# Altium integrated library Capacitors - Aluminum - Electrolytic SMT.IntLib: 1988 symbols (part 29 of 50)
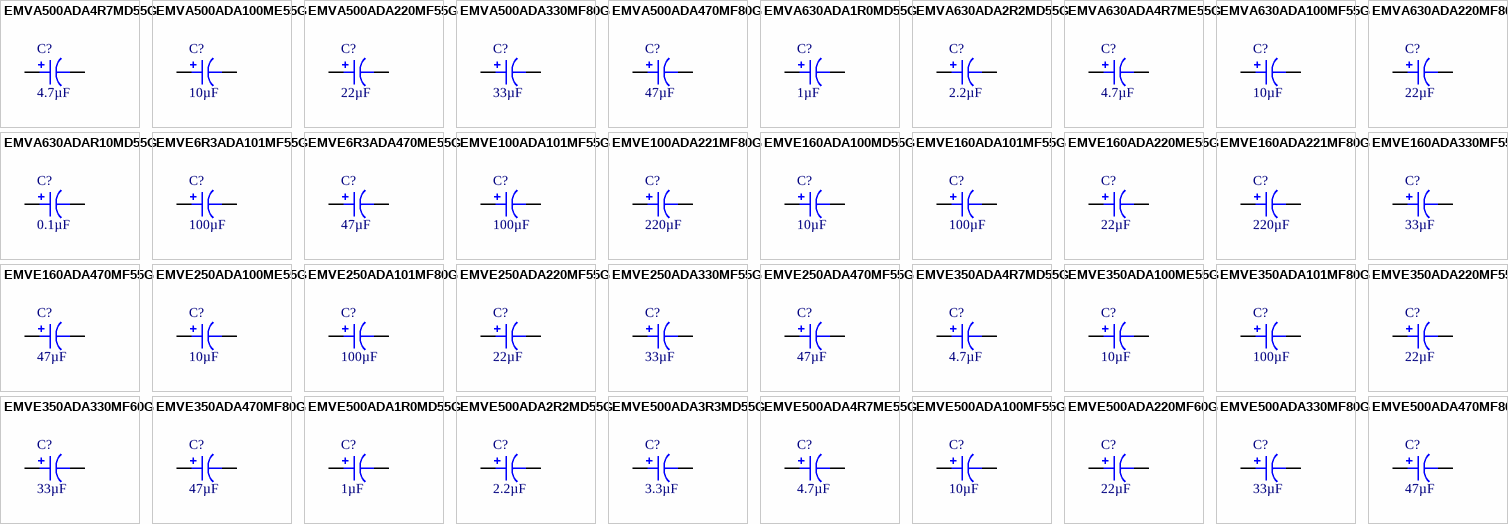
[diagram p76: symbols EMVA500ADA4R7MD55G to EMVE500ADA470MF80G]

## EMVE350ADA220MF55G
designator C?, comment 22µF
CAP ALUM 22UF 20% 35V SMD; Part Number: EMVE350ADA220MF55G; Manufacturer: United Chemi-Con; Lifetime @ Temp.: 1000 Hrs @ 105°C; Polarization: Polar; Ripple Current @ Low Frequency: 44mA @ 120Hz; Surface Mount Land Size: 0.260" L x 0.260" W (6.60mm x 6.60mm); Applications: General Purpose; Capacitance: 22µF; ComponentLink1Description: Datasheet; ComponentLink1URL: //media.digikey.com/pdf/Data%20Sheets/United%20Chemi-Con%20PDFs/MVE%20Series.pdf; ComponentLink2Description: DigiKey Link; ComponentLink2URL: http://digikey.com/product-detail/en/united-chemi-con/EMVE350ADA220MF55G/565-2231-1-ND/757392; Device Package: Radial, Can - SMD; Height - Seated (Max): 0.205" (5.20mm); LastUpdated: 9/2/2020 1:18:32 AM; Lifecycle Status: Active; Minimum Order: 1; Mounting Type: Surface Mount; Operating Temperature: -40°C ~ 105°C; Package / Case: Radial, Can - SMD; Packaging: TapeAndReel; PartId: 8628; Part Status: Active; Price: 0.13; Series: Alchip™- MVE; Size / Dimension: 0.248" Dia (6.30mm); Supplier 1: DigiKey; Supplier Part Number 1: 565-2231-1-ND; Tolerance: ±20%; Value: 22µF; Voltage - Rated: 35V
footprint CAP ALSMD 6.6MM H5.4MM
pins: 1, 2

## EMVE350ADA330MF60G
designator C?, comment 33µF
CAP ALUM 33UF 20% 35V SMD; Part Number: EMVE350ADA330MF60G; Manufacturer: United Chemi-Con; Lifetime @ Temp.: 1000 Hrs @ 105°C; Polarization: Polar; Ripple Current @ Low Frequency: 54mA @ 120Hz; Surface Mount Land Size: 0.260" L x 0.260" W (6.60mm x 6.60mm); Applications: General Purpose; Capacitance: 33µF; ComponentLink1Description: Datasheet; ComponentLink1URL: //media.digikey.com/pdf/Data%20Sheets/United%20Chemi-Con%20PDFs/MVE%20Series.pdf; ComponentLink2Description: DigiKey Link; ComponentLink2URL: http://digikey.com/product-detail/en/united-chemi-con/EMVE350ADA330MF60G/565-2232-1-ND/757393; Device Package: Radial, Can - SMD; Height - Seated (Max): 0.224" (5.70mm); LastUpdated: 9/2/2020 1:18:40 AM; Lifecycle Status: Active; Minimum Order: 1; Mounting Type: Surface Mount; Operating Temperature: -40°C ~ 105°C; Package / Case: Radial, Can - SMD; Packaging: TapeAndReel; PartId: 9060; Part Status: Active; Price: 0.09; Series: Alchip™- MVE; Size / Dimension: 0.248" Dia (6.30mm); Supplier 1: DigiKey; Supplier Part Number 1: 565-2232-1-ND; Tolerance: ±20%; Value: 33µF; Voltage - Rated: 35V
footprint CAP ALSMD 6.6MM H6.1MM
pins: 1, 2

## EMVE350ADA470MF80G
designator C?, comment 47µF
CAP ALUM 47UF 20% 35V SMD; Part Number: EMVE350ADA470MF80G; Manufacturer: United Chemi-Con; Lifetime @ Temp.: 1000 Hrs @ 105°C; Polarization: Polar; Ripple Current @ Low Frequency: 80mA @ 120Hz; Surface Mount Land Size: 0.260" L x 0.260" W (6.60mm x 6.60mm); Applications: General Purpose; Capacitance: 47µF; ComponentLink1Description: Datasheet; ComponentLink1URL: //media.digikey.com/pdf/Data%20Sheets/United%20Chemi-Con%20PDFs/MVE%20Series.pdf; ComponentLink2Description: DigiKey Link; ComponentLink2URL: http://digikey.com/product-detail/en/united-chemi-con/EMVE350ADA470MF80G/565-2233-1-ND/757394; Device Package: Radial, Can - SMD; Height - Seated (Max): 0.303" (7.70mm); LastUpdated: 9/2/2020 1:25:34 AM; Lifecycle Status: Active; Minimum Order: 1; Mounting Type: Surface Mount; Operating Temperature: -40°C ~ 105°C; Package / Case: Radial, Can - SMD; Packaging: TapeAndReel; PartId: 8291; Part Status: Active; Price: 0.14; Series: Alchip™- MVE; Size / Dimension: 0.248" Dia (6.30mm); Supplier 1: DigiKey; Supplier Part Number 1: 565-2233-1-ND; Tolerance: ±20%; Value: 47µF; Voltage - Rated: 35V
footprint CAP ALSMD 6.6MM H7.7MM
pins: 1, 2

## EMVE500ADA1R0MD55G
designator C?, comment 1µF
CAP ALUM 1UF 20% 50V SMD; Part Number: EMVE500ADA1R0MD55G; Manufacturer: United Chemi-Con; Lifetime @ Temp.: 1000 Hrs @ 105°C; Polarization: Polar; Ripple Current @ Low Frequency: 8mA @ 120Hz; Surface Mount Land Size: 0.169" L x 0.169" W (4.30mm x 4.30mm); Applications: General Purpose; Capacitance: 1µF; ComponentLink1Description: Datasheet; ComponentLink1URL: //media.digikey.com/pdf/Data%20Sheets/United%20Chemi-Con%20PDFs/MVE%20Series.pdf; ComponentLink2Description: DigiKey Link; ComponentLink2URL: http://digikey.com/product-detail/en/united-chemi-con/EMVE500ADA1R0MD55G/565-2244-1-ND/757405; Device Package: Radial, Can - SMD; Height - Seated (Max): 0.205" (5.20mm); LastUpdated: 9/2/2020 1:23:44 AM; Lifecycle Status: Active; Minimum Order: 1; Mounting Type: Surface Mount; Operating Temperature: -40°C ~ 105°C; Package / Case: Radial, Can - SMD; Packaging: TapeAndReel; PartId: 7107; Part Status: Active; Price: 0.07; Series: Alchip™- MVE; Size / Dimension: 0.157" Dia (4.00mm); Supplier 1: DigiKey; Supplier Part Number 1: 565-2244-1-ND; Tolerance: ±20%; Value: 1µF; Voltage - Rated: 50V
footprint CAP ALSMD POLY 4.3MM H5.5MM
pins: 1, 2

## EMVE500ADA2R2MD55G
designator C?, comment 2.2µF
CAP ALUM 2.2UF 20% 50V SMD; Part Number: EMVE500ADA2R2MD55G; Manufacturer: United Chemi-Con; Lifetime @ Temp.: 1000 Hrs @ 105°C; Polarization: Polar; Ripple Current @ Low Frequency: 12mA @ 120Hz; Surface Mount Land Size: 0.169" L x 0.169" W (4.30mm x 4.30mm); Applications: General Purpose; Capacitance: 2.2µF; ComponentLink1Description: Datasheet; ComponentLink1URL: //media.digikey.com/pdf/Data%20Sheets/United%20Chemi-Con%20PDFs/MVE%20Series.pdf; ComponentLink2Description: DigiKey Link; ComponentLink2URL: http://digikey.com/product-detail/en/united-chemi-con/EMVE500ADA2R2MD55G/565-2245-1-ND/757406; Device Package: Radial, Can - SMD; Height - Seated (Max): 0.205" (5.20mm); LastUpdated: 9/2/2020 1:23:43 AM; Lifecycle Status: Active; Minimum Order: 1; Mounting Type: Surface Mount; Operating Temperature: -40°C ~ 105°C; Package / Case: Radial, Can - SMD; Packaging: TapeAndReel; PartId: 7170; Part Status: Active; Price: 0.07; Series: Alchip™- MVE; Size / Dimension: 0.157" Dia (4.00mm); Supplier 1: DigiKey; Supplier Part Number 1: 565-2245-1-ND; Tolerance: ±20%; Value: 2.2µF; Voltage - Rated: 50V
footprint CAP ALSMD POLY 4.3MM H5.5MM
pins: 1, 2

## EMVE500ADA3R3MD55G
designator C?, comment 3.3µF
CAP ALUM 3.3UF 20% 50V SMD; Part Number: EMVE500ADA3R3MD55G; Manufacturer: United Chemi-Con; Lifetime @ Temp.: 1000 Hrs @ 105°C; Polarization: Polar; Ripple Current @ Low Frequency: 15mA @ 120Hz; Surface Mount Land Size: 0.169" L x 0.169" W (4.30mm x 4.30mm); Applications: General Purpose; Capacitance: 3.3µF; ComponentLink1Description: Datasheet; ComponentLink1URL: //media.digikey.com/pdf/Data%20Sheets/United%20Chemi-Con%20PDFs/MVE%20Series.pdf; ComponentLink2Description: DigiKey Link; ComponentLink2URL: http://digikey.com/product-detail/en/united-chemi-con/EMVE500ADA3R3MD55G/565-2246-1-ND/757407; Device Package: Radial, Can - SMD; Height - Seated (Max): 0.205" (5.20mm); LastUpdated: 9/2/2020 1:23:46 AM; Lifecycle Status: Active; Minimum Order: 1; Mounting Type: Surface Mount; Operating Temperature: -40°C ~ 105°C; Package / Case: Radial, Can - SMD; Packaging: TapeAndReel; PartId: 7043; Part Status: Active; Price: 0.07; Series: Alchip™- MVE; Size / Dimension: 0.157" Dia (4.00mm); Supplier 1: DigiKey; Supplier Part Number 1: 565-2246-1-ND; Tolerance: ±20%; Value: 3.3µF; Voltage - Rated: 50V
footprint CAP ALSMD POLY 4.3MM H5.5MM
pins: 1, 2

## EMVE500ADA4R7ME55G
designator C?, comment 4.7µF
CAP ALUM 4.7UF 20% 50V SMD; Part Number: EMVE500ADA4R7ME55G; Manufacturer: United Chemi-Con; Lifetime @ Temp.: 1000 Hrs @ 105°C; Polarization: Polar; Ripple Current @ Low Frequency: 20mA @ 120Hz; Surface Mount Land Size: 0.209" L x 0.209" W (5.30mm x 5.30mm); Applications: General Purpose; Capacitance: 4.7µF; ComponentLink1Description: Datasheet; ComponentLink1URL: //media.digikey.com/pdf/Data%20Sheets/United%20Chemi-Con%20PDFs/MVE%20Series.pdf; ComponentLink2Description: DigiKey Link; ComponentLink2URL: http://digikey.com/product-detail/en/united-chemi-con/EMVE500ADA4R7ME55G/565-2247-1-ND/757408; Device Package: Radial, Can - SMD; Height - Seated (Max): 0.205" (5.20mm); LastUpdated: 9/2/2020 1:18:30 AM; Lifecycle Status: Active; Minimum Order: 1; Mounting Type: Surface Mount; Operating Temperature: -40°C ~ 105°C; Package / Case: Radial, Can - SMD; Packaging: TapeAndReel; PartId: 8617; Part Status: Active; Price: 0.08; Series: Alchip™- MVE; Size / Dimension: 0.197" Dia (5.00mm); Supplier 1: DigiKey; Supplier Part Number 1: 565-2247-1-ND; Tolerance: ±20%; Value: 4.7µF; Voltage - Rated: 50V
footprint CAP ALSMD 5.3MM H5.4MM
pins: 1, 2

## EMVE500ADA100MF55G
designator C?, comment 10µF
CAP ALUM 10UF 20% 50V SMD; Part Number: EMVE500ADA100MF55G; Manufacturer: United Chemi-Con; Lifetime @ Temp.: 1000 Hrs @ 105°C; Polarization: Polar; Ripple Current @ Low Frequency: 32mA @ 120Hz; Surface Mount Land Size: 0.260" L x 0.260" W (6.60mm x 6.60mm); Applications: General Purpose; Capacitance: 10µF; ComponentLink1Description: Datasheet; ComponentLink1URL: //media.digikey.com/pdf/Data%20Sheets/United%20Chemi-Con%20PDFs/MVE%20Series.pdf; ComponentLink2Description: DigiKey Link; ComponentLink2URL: http://digikey.com/product-detail/en/united-chemi-con/EMVE500ADA100MF55G/565-2248-1-ND/757409; Device Package: Radial, Can - SMD; Height - Seated (Max): 0.205" (5.20mm); LastUpdated: 9/2/2020 1:18:32 AM; Lifecycle Status: Active; Minimum Order: 1; Mounting Type: Surface Mount; Operating Temperature: -40°C ~ 105°C; Package / Case: Radial, Can - SMD; Packaging: TapeAndReel; PartId: 8695; Part Status: Active; Price: 0.08; Series: Alchip™- MVE; Size / Dimension: 0.248" Dia (6.30mm); Supplier 1: DigiKey; Supplier Part Number 1: 565-2248-1-ND; Tolerance: ±20%; Value: 10µF; Voltage - Rated: 50V
footprint CAP ALSMD 6.6MM H5.4MM
pins: 1, 2

## EMVE500ADA220MF60G
designator C?, comment 22µF
CAP ALUM 22UF 20% 50V SMD; Part Number: EMVE500ADA220MF60G; Manufacturer: United Chemi-Con; Lifetime @ Temp.: 1000 Hrs @ 105°C; Polarization: Polar; Ripple Current @ Low Frequency: 47mA @ 120Hz; Surface Mount Land Size: 0.260" L x 0.260" W (6.60mm x 6.60mm); Applications: General Purpose; Capacitance: 22µF; ComponentLink1Description: Datasheet; ComponentLink1URL: //media.digikey.com/pdf/Data%20Sheets/United%20Chemi-Con%20PDFs/MVE%20Series.pdf; ComponentLink2Description: DigiKey Link; ComponentLink2URL: http://digikey.com/product-detail/en/united-chemi-con/EMVE500ADA220MF60G/565-2249-1-ND/757410; Device Package: Radial, Can - SMD; Height - Seated (Max): 0.224" (5.70mm); LastUpdated: 9/2/2020 1:18:40 AM; Lifecycle Status: Active; Minimum Order: 1; Mounting Type: Surface Mount; Operating Temperature: -40°C ~ 105°C; Package / Case: Radial, Can - SMD; Packaging: TapeAndReel; PartId: 9067; Part Status: Active; Price: 0.09; Series: Alchip™- MVE; Size / Dimension: 0.248" Dia (6.30mm); Supplier 1: DigiKey; Supplier Part Number 1: 565-2249-1-ND; Tolerance: ±20%; Value: 22µF; Voltage - Rated: 50V
footprint CAP ALSMD 6.6MM H6.1MM
pins: 1, 2

## EMVE500ADA330MF80G
designator C?, comment 33µF
CAP ALUM 33UF 20% 50V SMD; Part Number: EMVE500ADA330MF80G; Manufacturer: United Chemi-Con; Lifetime @ Temp.: 1000 Hrs @ 105°C; Polarization: Polar; Ripple Current @ Low Frequency: 65mA @ 120Hz; Surface Mount Land Size: 0.260" L x 0.260" W (6.60mm x 6.60mm); Applications: General Purpose; Capacitance: 33µF; ComponentLink1Description: Datasheet; ComponentLink1URL: //media.digikey.com/pdf/Data%20Sheets/United%20Chemi-Con%20PDFs/MVE%20Series.pdf; ComponentLink2Description: DigiKey Link; ComponentLink2URL: http://digikey.com/product-detail/en/united-chemi-con/EMVE500ADA330MF80G/565-2250-1-ND/757411; Device Package: Radial, Can - SMD; Height - Seated (Max): 0.303" (7.70mm); LastUpdated: 9/2/2020 1:25:35 AM; Lifecycle Status: Active; Minimum Order: 1; Mounting Type: Surface Mount; Operating Temperature: -40°C ~ 105°C; Package / Case: Radial, Can - SMD; Packaging: TapeAndReel; PartId: 8241; Part Status: Active; Price: 0.14; Series: Alchip™- MVE; Size / Dimension: 0.248" Dia (6.30mm); Supplier 1: DigiKey; Supplier Part Number 1: 565-2250-1-ND; Tolerance: ±20%; Value: 33µF; Voltage - Rated: 50V
footprint CAP ALSMD 6.6MM H7.7MM
pins: 1, 2

## EMVE500ADA470MF80G
designator C?, comment 47µF
CAP ALUM 47UF 20% 50V SMD; Part Number: EMVE500ADA470MF80G; Manufacturer: United Chemi-Con; Lifetime @ Temp.: 1000 Hrs @ 105°C; Polarization: Polar; Ripple Current @ Low Frequency: 80mA @ 120Hz; Surface Mount Land Size: 0.260" L x 0.260" W (6.60mm x 6.60mm); Applications: General Purpose; Capacitance: 47µF; ComponentLink1Description: Datasheet; ComponentLink1URL: //media.digikey.com/pdf/Data%20Sheets/United%20Chemi-Con%20PDFs/MVE%20Series.pdf; ComponentLink2Description: DigiKey Link; ComponentLink2URL: http://digikey.com/product-detail/en/united-chemi-con/EMVE500ADA470MF80G/565-2251-1-ND/757412; Device Package: Radial, Can - SMD; Height - Seated (Max): 0.303" (7.70mm); LastUpdated: 9/2/2020 1:25:34 AM; Lifecycle Status: Active; Minimum Order: 1; Mounting Type: Surface Mount; Operating Temperature: -40°C ~ 105°C; Package / Case: Radial, Can - SMD; Packaging: TapeAndReel; PartId: 8323; Part Status: Active; Price: 0.14; Series: Alchip™- MVE; Size / Dimension: 0.248" Dia (6.30mm); Supplier 1: DigiKey; Supplier Part Number 1: 565-2251-1-ND; Tolerance: ±20%; Value: 47µF; Voltage - Rated: 50V
footprint CAP ALSMD 6.6MM H7.7MM
pins: 1, 2

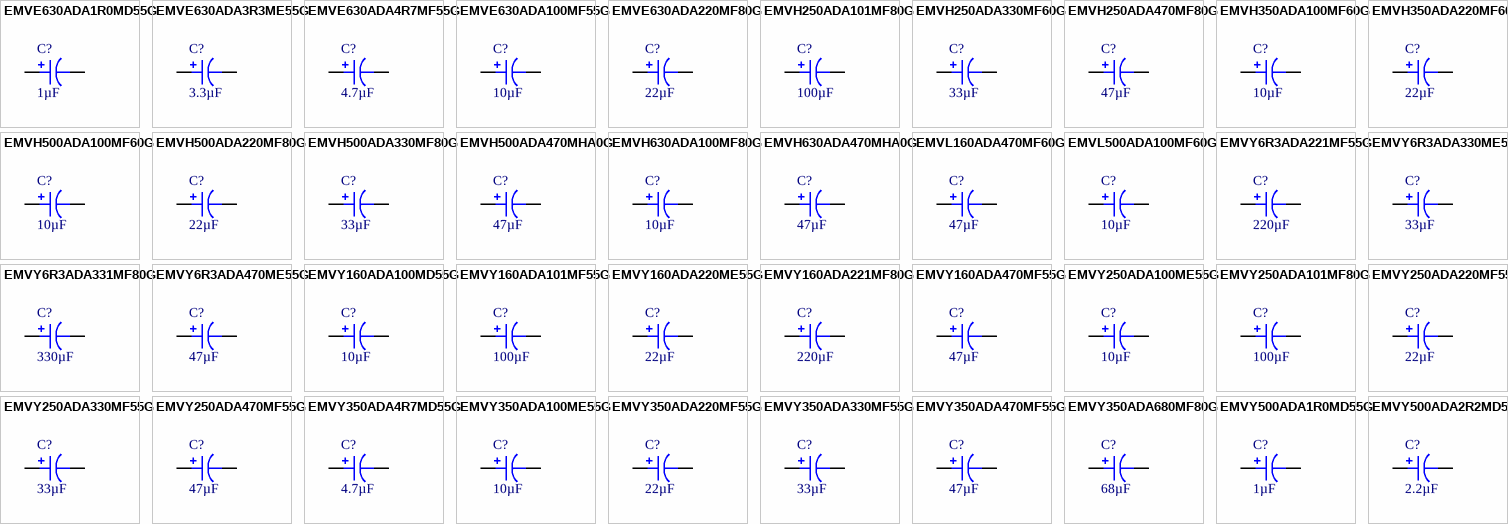
[diagram p28: symbols EMVE630ADA1R0MD55G to EMVY500ADA2R2MD55G]

## EMVE630ADA1R0MD55G
designator C?, comment 1µF
CAP ALUM 1UF 20% 63V SMD; Part Number: EMVE630ADA1R0MD55G; Manufacturer: United Chemi-Con; Lifetime @ Temp.: 1000 Hrs @ 105°C; Polarization: Polar; Ripple Current @ Low Frequency: 8mA @ 120Hz; Surface Mount Land Size: 0.169" L x 0.169" W (4.30mm x 4.30mm); Applications: General Purpose; Capacitance: 1µF; ComponentLink1Description: Datasheet; ComponentLink1URL: //media.digikey.com/pdf/Data%20Sheets/United%20Chemi-Con%20PDFs/MVE%20Series.pdf; ComponentLink2Description: DigiKey Link; ComponentLink2URL: http://digikey.com/product-detail/en/united-chemi-con/EMVE630ADA1R0MD55G/565-2260-1-ND/757421; Device Package: Radial, Can - SMD; Height - Seated (Max): 0.205" (5.20mm); LastUpdated: 9/2/2020 1:23:44 AM; Lifecycle Status: Active; Minimum Order: 1; Mounting Type: Surface Mount; Operating Temperature: -40°C ~ 105°C; Package / Case: Radial, Can - SMD; Packaging: TapeAndReel; PartId: 7108; Part Status: Active; Price: 0.07; Series: Alchip™- MVE; Size / Dimension: 0.157" Dia (4.00mm); Supplier 1: DigiKey; Supplier Part Number 1: 565-2260-1-ND; Tolerance: ±20%; Value: 1µF; Voltage - Rated: 63V
footprint CAP ALSMD POLY 4.3MM H5.5MM
pins: 1, 2

## EMVE630ADA3R3ME55G
designator C?, comment 3.3µF
CAP ALUM 3.3UF 20% 63V SMD; Part Number: EMVE630ADA3R3ME55G; Manufacturer: United Chemi-Con; Lifetime @ Temp.: 1000 Hrs @ 105°C; Polarization: Polar; Ripple Current @ Low Frequency: 17mA @ 120Hz; Surface Mount Land Size: 0.209" L x 0.209" W (5.30mm x 5.30mm); Applications: General Purpose; Capacitance: 3.3µF; ComponentLink1Description: Datasheet; ComponentLink1URL: //media.digikey.com/pdf/Data%20Sheets/United%20Chemi-Con%20PDFs/MVE%20Series.pdf; ComponentLink2Description: DigiKey Link; ComponentLink2URL: http://digikey.com/product-detail/en/united-chemi-con/EMVE630ADA3R3ME55G/565-2262-1-ND/757423; Device Package: Radial, Can - SMD; Height - Seated (Max): 0.205" (5.20mm); LastUpdated: 9/2/2020 1:18:29 AM; Lifecycle Status: Active; Minimum Order: 1; Mounting Type: Surface Mount; Operating Temperature: -40°C ~ 105°C; Package / Case: Radial, Can - SMD; Packaging: TapeAndReel; PartId: 8566; Part Status: Active; Price: 0.08; Series: Alchip™- MVE; Size / Dimension: 0.197" Dia (5.00mm); Supplier 1: DigiKey; Supplier Part Number 1: 565-2262-1-ND; Tolerance: ±20%; Value: 3.3µF; Voltage - Rated: 63V
footprint CAP ALSMD 5.3MM H5.4MM
pins: 1, 2

## EMVE630ADA4R7MF55G
designator C?, comment 4.7µF
CAP ALUM 4.7UF 20% 63V SMD; Part Number: EMVE630ADA4R7MF55G; Manufacturer: United Chemi-Con; Lifetime @ Temp.: 1000 Hrs @ 105°C; Polarization: Polar; Ripple Current @ Low Frequency: 22mA @ 120Hz; Surface Mount Land Size: 0.260" L x 0.260" W (6.60mm x 6.60mm); Applications: General Purpose; Capacitance: 4.7µF; ComponentLink1Description: Datasheet; ComponentLink1URL: //media.digikey.com/pdf/Data%20Sheets/United%20Chemi-Con%20PDFs/MVE%20Series.pdf; ComponentLink2Description: DigiKey Link; ComponentLink2URL: http://digikey.com/product-detail/en/united-chemi-con/EMVE630ADA4R7MF55G/565-2263-1-ND/757424; Device Package: Radial, Can - SMD; Height - Seated (Max): 0.205" (5.20mm); LastUpdated: 9/2/2020 1:18:32 AM; Lifecycle Status: Active; Minimum Order: 1; Mounting Type: Surface Mount; Operating Temperature: -40°C ~ 105°C; Package / Case: Radial, Can - SMD; Packaging: TapeAndReel; PartId: 8643; Part Status: Active; Price: 0.08; Series: Alchip™- MVE; Size / Dimension: 0.248" Dia (6.30mm); Supplier 1: DigiKey; Supplier Part Number 1: 565-2263-1-ND; Tolerance: ±20%; Value: 4.7µF; Voltage - Rated: 63V
footprint CAP ALSMD 6.6MM H5.4MM
pins: 1, 2

## EMVE630ADA100MF55G
designator C?, comment 10µF
CAP ALUM 10UF 20% 63V SMD; Part Number: EMVE630ADA100MF55G; Manufacturer: United Chemi-Con; Lifetime @ Temp.: 1000 Hrs @ 105°C; Polarization: Polar; Ripple Current @ Low Frequency: 32mA @ 120Hz; Surface Mount Land Size: 0.260" L x 0.260" W (6.60mm x 6.60mm); Applications: General Purpose; Capacitance: 10µF; ComponentLink1Description: Datasheet; ComponentLink1URL: //media.digikey.com/pdf/Data%20Sheets/United%20Chemi-Con%20PDFs/MVE%20Series.pdf; ComponentLink2Description: DigiKey Link; ComponentLink2URL: http://digikey.com/product-detail/en/united-chemi-con/EMVE630ADA100MF55G/565-2264-1-ND/757425; Device Package: Radial, Can - SMD; Height - Seated (Max): 0.205" (5.20mm); LastUpdated: 9/2/2020 1:18:32 AM; Lifecycle Status: Active; Minimum Order: 1; Mounting Type: Surface Mount; Operating Temperature: -40°C ~ 105°C; Package / Case: Radial, Can - SMD; Packaging: TapeAndReel; PartId: 8693; Part Status: Active; Price: 0.08; Series: Alchip™- MVE; Size / Dimension: 0.248" Dia (6.30mm); Supplier 1: DigiKey; Supplier Part Number 1: 565-2264-1-ND; Tolerance: ±20%; Value: 10µF; Voltage - Rated: 63V
footprint CAP ALSMD 6.6MM H5.4MM
pins: 1, 2

## EMVE630ADA220MF80G
designator C?, comment 22µF
CAP ALUM 22UF 20% 63V SMD; Part Number: EMVE630ADA220MF80G; Manufacturer: United Chemi-Con; Lifetime @ Temp.: 1000 Hrs @ 105°C; Polarization: Polar; Ripple Current @ Low Frequency: 58mA @ 120Hz; Surface Mount Land Size: 0.260" L x 0.260" W (6.60mm x 6.60mm); Applications: General Purpose; Capacitance: 22µF; ComponentLink1Description: Datasheet; ComponentLink1URL: //media.digikey.com/pdf/Data%20Sheets/United%20Chemi-Con%20PDFs/MVE%20Series.pdf; ComponentLink2Description: DigiKey Link; ComponentLink2URL: http://digikey.com/product-detail/en/united-chemi-con/EMVE630ADA220MF80G/565-2265-1-ND/757426; Device Package: Radial, Can - SMD; Height - Seated (Max): 0.303" (7.70mm); LastUpdated: 9/2/2020 1:25:34 AM; Lifecycle Status: Active; Minimum Order: 1; Mounting Type: Surface Mount; Operating Temperature: -40°C ~ 105°C; Package / Case: Radial, Can - SMD; Packaging: TapeAndReel; PartId: 8326; Part Status: Active; Price: 0.14; Series: Alchip™- MVE; Size / Dimension: 0.248" Dia (6.30mm); Supplier 1: DigiKey; Supplier Part Number 1: 565-2265-1-ND; Tolerance: ±20%; Value: 22µF; Voltage - Rated: 63V
footprint CAP ALSMD 6.6MM H7.7MM
pins: 1, 2

## EMVH250ADA101MF80G
designator C?, comment 100µF
CAP ALUM 100UF 20% 25V SMD; Part Number: EMVH250ADA101MF80G; Manufacturer: United Chemi-Con; ESR (Equivalent Series Resistance): 900mOhm @ 100kHz; Lifetime @ Temp.: 1000 Hrs @ 125°C; Polarization: Polar; Ripple Current @ High Frequency: 110mA @ 100kHz; Ripple Current @ Low Frequency: 102.3mA @ 120Hz; Surface Mount Land Size: 0.260" L x 0.260" W (6.60mm x 6.60mm); Applications: Automotive; Capacitance: 100µF; ComponentLink1Description: Datasheet; ComponentLink1URL: http://www.chemi-con.com/upload/files/9/3/45226975052d6c71e04ba0.pdf; ComponentLink2Description: DigiKey Link; ComponentLink2URL: http://digikey.com/product-detail/en/united-chemi-con/EMVH250ADA101MF80G/565-4266-1-ND/5400342; Device Package: Radial, Can - SMD; Height - Seated (Max): 0.315" (8.00mm); LastUpdated: 9/2/2020 1:25:37 AM; Lifecycle Status: Active; Minimum Order: 1; Mounting Type: Surface Mount; Operating Temperature: -40°C ~ 125°C; Package / Case: Radial, Can - SMD; Packaging: TapeAndReel; PartId: 8494; Part Status: Active; Price: 0.18; Series: Alchip™- MVH; Size / Dimension: 0.248" Dia (6.30mm); Supplier 1: DigiKey; Supplier Part Number 1: 565-4266-1-ND; Tolerance: ±20%; Value: 100µF; Voltage - Rated: 25V
footprint CAP ALSMD 6.6MM H8.0MM
pins: 1, 2

## EMVH250ADA330MF60G
designator C?, comment 33µF
CAP ALUM 33UF 20% 25V SMD; Part Number: EMVH250ADA330MF60G; Manufacturer: United Chemi-Con; ESR (Equivalent Series Resistance): 1.6Ohm @ 100kHz; Lifetime @ Temp.: 1000 Hrs @ 125°C; Polarization: Polar; Ripple Current @ High Frequency: 69mA @ 100kHz; Ripple Current @ Low Frequency: 64.17mA @ 120Hz; Surface Mount Land Size: 0.260" L x 0.260" W (6.60mm x 6.60mm); Applications: Automotive; Capacitance: 33µF; ComponentLink1Description: Datasheet; ComponentLink1URL: http://www.chemi-con.com/upload/files/9/3/45226975052d6c71e04ba0.pdf; ComponentLink2Description: DigiKey Link; ComponentLink2URL: http://digikey.com/product-detail/en/united-chemi-con/EMVH250ADA330MF60G/565-2299-1-ND/757460; Device Package: Radial, Can - SMD; Height - Seated (Max): 0.224" (5.70mm); LastUpdated: 9/2/2020 1:18:38 AM; Lifecycle Status: Active; Minimum Order: 1; Mounting Type: Surface Mount; Operating Temperature: -40°C ~ 125°C; Package / Case: Radial, Can - SMD; Packaging: TapeAndReel; PartId: 8913; Part Status: Active; Price: 0.14; Series: Alchip™- MVH; Size / Dimension: 0.248" Dia (6.30mm); Supplier 1: DigiKey; Supplier Part Number 1: 565-2299-1-ND; Tolerance: ±20%; Value: 33µF; Voltage - Rated: 25V
footprint CAP ALSMD 6.6MM H6.1MM
pins: 1, 2

## EMVH250ADA470MF80G
designator C?, comment 47µF
CAP ALUM 47UF 20% 25V SMD; Part Number: EMVH250ADA470MF80G; Manufacturer: United Chemi-Con; ESR (Equivalent Series Resistance): 900mOhm @ 100kHz; Lifetime @ Temp.: 1000 Hrs @ 125°C; Polarization: Polar; Ripple Current @ High Frequency: 110mA @ 100kHz; Ripple Current @ Low Frequency: 102.3mA @ 120Hz; Surface Mount Land Size: 0.260" L x 0.260" W (6.60mm x 6.60mm); Applications: Automotive; Capacitance: 47µF; ComponentLink1Description: Datasheet; ComponentLink1URL: http://www.chemi-con.com/upload/files/9/3/45226975052d6c71e04ba0.pdf; ComponentLink2Description: DigiKey Link; ComponentLink2URL: http://digikey.com/product-detail/en/united-chemi-con/EMVH250ADA470MF80G/565-2300-1-ND/757461; Device Package: Radial, Can - SMD; Height - Seated (Max): 0.303" (7.70mm); LastUpdated: 9/2/2020 1:25:35 AM; Lifecycle Status: Active; Minimum Order: 1; Mounting Type: Surface Mount; Operating Temperature: -40°C ~ 125°C; Package / Case: Radial, Can - SMD; Packaging: TapeAndReel; PartId: 8212; Part Status: Active; Price: 0.17; Series: Alchip™- MVH; Size / Dimension: 0.248" Dia (6.30mm); Supplier 1: DigiKey; Supplier Part Number 1: 565-2300-1-ND; Tolerance: ±20%; Value: 47µF; Voltage - Rated: 25V
footprint CAP ALSMD 6.6MM H7.7MM
pins: 1, 2

## EMVH350ADA100MF60G
designator C?, comment 10µF
CAP ALUM 10UF 20% 35V SMD; Part Number: EMVH350ADA100MF60G; Manufacturer: United Chemi-Con; ESR (Equivalent Series Resistance): 1.6Ohm @ 100kHz; Lifetime @ Temp.: 1000 Hrs @ 125°C; Polarization: Polar; Ripple Current @ High Frequency: 69mA @ 100kHz; Ripple Current @ Low Frequency: 45.54mA @ 120Hz; Surface Mount Land Size: 0.260" L x 0.260" W (6.60mm x 6.60mm); Applications: Automotive; Capacitance: 10µF; ComponentLink1Description: Datasheet; ComponentLink1URL: http://www.chemi-con.com/upload/files/9/3/45226975052d6c71e04ba0.pdf; ComponentLink2Description: DigiKey Link; ComponentLink2URL: http://digikey.com/product-detail/en/united-chemi-con/EMVH350ADA100MF60G/565-2310-1-ND/757471; Device Package: Radial, Can - SMD; Height - Seated (Max): 0.224" (5.70mm); LastUpdated: 9/2/2020 1:18:36 AM; Lifecycle Status: Active; Minimum Order: 1; Mounting Type: Surface Mount; Operating Temperature: -40°C ~ 125°C; Package / Case: Radial, Can - SMD; Packaging: TapeAndReel; PartId: 8829; Part Status: Active; Price: 0.14; Series: Alchip™- MVH; Size / Dimension: 0.248" Dia (6.30mm); Supplier 1: DigiKey; Supplier Part Number 1: 565-2310-1-ND; Tolerance: ±20%; Value: 10µF; Voltage - Rated: 35V
footprint CAP ALSMD 6.6MM H6.1MM
pins: 1, 2

## EMVH350ADA220MF60G
designator C?, comment 22µF
CAP ALUM 22UF 20% 35V SMD; Part Number: EMVH350ADA220MF60G; Manufacturer: United Chemi-Con; ESR (Equivalent Series Resistance): 1.6Ohm @ 100kHz; Lifetime @ Temp.: 1000 Hrs @ 125°C; Polarization: Polar; Ripple Current @ High Frequency: 69mA @ 100kHz; Ripple Current @ Low Frequency: 64.17mA @ 120Hz; Surface Mount Land Size: 0.260" L x 0.260" W (6.60mm x 6.60mm); Applications: Automotive; Capacitance: 22µF; ComponentLink1Description: Datasheet; ComponentLink1URL: http://www.chemi-con.com/upload/files/9/3/45226975052d6c71e04ba0.pdf; ComponentLink2Description: DigiKey Link; ComponentLink2URL: http://digikey.com/product-detail/en/united-chemi-con/EMVH350ADA220MF60G/565-2311-1-ND/757472; Device Package: Radial, Can - SMD; Height - Seated (Max): 0.224" (5.70mm); LastUpdated: 9/2/2020 1:18:36 AM; Lifecycle Status: Active; Minimum Order: 1; Mounting Type: Surface Mount; Operating Temperature: -40°C ~ 125°C; Package / Case: Radial, Can - SMD; Packaging: TapeAndReel; PartId: 8828; Part Status: Active; Price: 0.14; Series: Alchip™- MVH; Size / Dimension: 0.248" Dia (6.30mm); Supplier 1: DigiKey; Supplier Part Number 1: 565-2311-1-ND; Tolerance: ±20%; Value: 22µF; Voltage - Rated: 35V
footprint CAP ALSMD 6.6MM H6.1MM
pins: 1, 2

## EMVH500ADA100MF60G
designator C?, comment 10µF
CAP ALUM 10UF 20% 50V SMD; Part Number: EMVH500ADA100MF60G; Manufacturer: United Chemi-Con; ESR (Equivalent Series Resistance): 2800mOhm @ 100kHz; Lifetime @ Temp.: 1000 Hrs @ 125°C; Polarization: Polar; Ripple Current @ High Frequency: 51mA @ 100kHz; Ripple Current @ Low Frequency: 33.66mA @ 120Hz; Surface Mount Land Size: 0.260" L x 0.260" W (6.60mm x 6.60mm); Applications: Automotive; Capacitance: 10µF; ComponentLink1Description: Datasheet; ComponentLink1URL: http://www.chemi-con.com/upload/files/9/3/45226975052d6c71e04ba0.pdf; ComponentLink2Description: DigiKey Link; ComponentLink2URL: http://digikey.com/product-detail/en/united-chemi-con/EMVH500ADA100MF60G/565-2321-1-ND/757482; Device Package: Radial, Can - SMD; Height - Seated (Max): 0.224" (5.70mm); LastUpdated: 9/2/2020 1:18:36 AM; Lifecycle Status: Active; Minimum Order: 1; Mounting Type: Surface Mount; Operating Temperature: -40°C ~ 125°C; Package / Case: Radial, Can - SMD; Packaging: TapeAndReel; PartId: 8830; Part Status: Active; Price: 0.13; Series: Alchip™- MVH; Size / Dimension: 0.248" Dia (6.30mm); Supplier 1: DigiKey; Supplier Part Number 1: 565-2321-1-ND; Tolerance: ±20%; Value: 10µF; Voltage - Rated: 50V
footprint CAP ALSMD 6.6MM H6.1MM
pins: 1, 2

## EMVH500ADA220MF80G
designator C?, comment 22µF
CAP ALUM 22UF 20% 50V SMD; Part Number: EMVH500ADA220MF80G; Manufacturer: United Chemi-Con; ESR (Equivalent Series Resistance): 2000mOhm @ 100kHz; Lifetime @ Temp.: 1000 Hrs @ 125°C; Polarization: Polar; Ripple Current @ High Frequency: 83mA @ 100kHz; Ripple Current @ Low Frequency: 77.19mA @ 120Hz; Surface Mount Land Size: 0.260" L x 0.260" W (6.60mm x 6.60mm); Applications: Automotive; Capacitance: 22µF; ComponentLink1Description: Datasheet; ComponentLink1URL: http://www.chemi-con.com/upload/files/9/3/45226975052d6c71e04ba0.pdf; ComponentLink2Description: DigiKey Link; ComponentLink2URL: http://digikey.com/product-detail/en/united-chemi-con/EMVH500ADA220MF80G/565-2322-1-ND/757483; Device Package: Radial, Can - SMD; Height - Seated (Max): 0.303" (7.70mm); LastUpdated: 9/2/2020 1:25:35 AM; Lifecycle Status: Active; Minimum Order: 1; Mounting Type: Surface Mount; Operating Temperature: -40°C ~ 125°C; Package / Case: Radial, Can - SMD; Packaging: TapeAndReel; PartId: 8222; Part Status: Active; Price: 0.16; Series: Alchip™- MVH; Size / Dimension: 0.248" Dia (6.30mm); Supplier 1: DigiKey; Supplier Part Number 1: 565-2322-1-ND; Tolerance: ±20%; Value: 22µF; Voltage - Rated: 50V
footprint CAP ALSMD 6.6MM H7.7MM
pins: 1, 2

## EMVH500ADA330MF80G
designator C?, comment 33µF
CAP ALUM 33UF 20% 50V SMD; Part Number: EMVH500ADA330MF80G; Manufacturer: United Chemi-Con; ESR (Equivalent Series Resistance): 2000mOhm @ 100kHz; Lifetime @ Temp.: 1000 Hrs @ 125°C; Polarization: Polar; Ripple Current @ High Frequency: 83mA @ 100kHz; Ripple Current @ Low Frequency: 77.19mA @ 120Hz; Surface Mount Land Size: 0.260" L x 0.260" W (6.60mm x 6.60mm); Applications: Automotive; Capacitance: 33µF; ComponentLink1Description: Datasheet; ComponentLink1URL: http://www.chemi-con.com/upload/files/9/3/45226975052d6c71e04ba0.pdf; ComponentLink2Description: DigiKey Link; ComponentLink2URL: http://digikey.com/product-detail/en/united-chemi-con/EMVH500ADA330MF80G/565-4862-1-ND/7792723; Device Package: Radial, Can - SMD; Height - Seated (Max): 0.315" (8.00mm); LastUpdated: 9/2/2020 1:25:38 AM; Lifecycle Status: Active; Minimum Order: 1; Mounting Type: Surface Mount; Operating Temperature: -40°C ~ 125°C; Package / Case: Radial, Can - SMD; Packaging: TapeAndReel; PartId: 8414; Part Status: Active; Price: 0.17; Series: Alchip™- MVH; Size / Dimension: 0.248" Dia (6.30mm); Supplier 1: DigiKey; Supplier Part Number 1: 565-4862-1-ND; Tolerance: ±20%; Value: 33µF; Voltage - Rated: 50V
footprint CAP ALSMD 6.6MM H8.0MM
pins: 1, 2

## EMVH500ADA470MHA0G
designator C?, comment 47µF
CAP ALUM 47UF 20% 50V SMD; Part Number: EMVH500ADA470MHA0G; Manufacturer: United Chemi-Con; ESR (Equivalent Series Resistance): 700mOhm @ 100kHz; Lifetime @ Temp.: 2000 Hrs @ 125°C; Polarization: Polar; Ripple Current @ High Frequency: 160mA @ 100kHz; Ripple Current @ Low Frequency: 148.8mA @ 120Hz; Surface Mount Land Size: 0.327" L x 0.327" W (8.30mm x 8.30mm); Applications: Automotive; Capacitance: 47µF; ComponentLink1Description: Datasheet; ComponentLink1URL: http://www.chemi-con.com/upload/files/9/3/45226975052d6c71e04ba0.pdf; ComponentLink2Description: DigiKey Link; ComponentLink2URL: http://digikey.com/product-detail/en/united-chemi-con/EMVH500ADA470MHA0G/565-4267-1-ND/5400343; Device Package: Radial, Can - SMD; Height - Seated (Max): 0.413" (10.50mm); LastUpdated: 9/2/2020 1:25:13 AM; Lifecycle Status: Active; Minimum Order: 1; Mounting Type: Surface Mount; Operating Temperature: -40°C ~ 125°C; Package / Case: Radial, Can - SMD; Packaging: TapeAndReel; PartId: 7734; Part Status: Active; Price: 0.31; Series: Alchip™- MVH; Size / Dimension: 0.315" Dia (8.00mm); Supplier 1: DigiKey; Supplier Part Number 1: 565-4267-1-ND; Tolerance: ±20%; Value: 47µF; Voltage - Rated: 50V
footprint CAP ALSMD 8.3MM H10.5MM
pins: 1, 2

## EMVH630ADA100MF80G
designator C?, comment 10µF
CAP ALUM 10UF 20% 63V SMD; Part Number: EMVH630ADA100MF80G; Manufacturer: United Chemi-Con; ESR (Equivalent Series Resistance): 2000mOhm @ 100kHz; Lifetime @ Temp.: 1000 Hrs @ 125°C; Polarization: Polar; Ripple Current @ High Frequency: 60mA @ 100kHz; Ripple Current @ Low Frequency: 39.6mA @ 120Hz; Surface Mount Land Size: 0.260" L x 0.260" W (6.60mm x 6.60mm); Applications: Automotive; Capacitance: 10µF; ComponentLink1Description: Datasheet; ComponentLink1URL: http://www.chemi-con.com/upload/files/9/3/45226975052d6c71e04ba0.pdf; ComponentLink2Description: DigiKey Link; ComponentLink2URL: http://digikey.com/product-detail/en/united-chemi-con/EMVH630ADA100MF80G/565-2332-1-ND/757493; Device Package: Radial, Can - SMD; Height - Seated (Max): 0.303" (7.70mm); LastUpdated: 9/2/2020 1:25:34 AM; Lifecycle Status: Active; Minimum Order: 1; Mounting Type: Surface Mount; Operating Temperature: -40°C ~ 125°C; Package / Case: Radial, Can - SMD; Packaging: TapeAndReel; PartId: 8332; Part Status: Active; Price: 0.15; Series: Alchip™- MVH; Size / Dimension: 0.248" Dia (6.30mm); Supplier 1: DigiKey; Supplier Part Number 1: 565-2332-1-ND; Tolerance: ±20%; Value: 10µF; Voltage - Rated: 63V
footprint CAP ALSMD 6.6MM H7.7MM
pins: 1, 2

## EMVH630ADA470MHA0G
designator C?, comment 47µF
CAP ALUM 47UF 20% 63V SMD; Part Number: EMVH630ADA470MHA0G; Manufacturer: United Chemi-Con; ESR (Equivalent Series Resistance): 700mOhm @ 100kHz; Lifetime @ Temp.: 2000 Hrs @ 125°C; Polarization: Polar; Ripple Current @ High Frequency: 100mA @ 100kHz; Ripple Current @ Low Frequency: 93mA @ 120Hz; Surface Mount Land Size: 0.327" L x 0.327" W (8.30mm x 8.30mm); Applications: Automotive; Capacitance: 47µF; ComponentLink1Description: Datasheet; ComponentLink1URL: http://www.chemi-con.com/upload/files/9/3/45226975052d6c71e04ba0.pdf; ComponentLink2Description: DigiKey Link; ComponentLink2URL: http://digikey.com/product-detail/en/united-chemi-con/EMVH630ADA470MHA0G/565-4268-1-ND/5400344; Device Package: Radial, Can - SMD; Height - Seated (Max): 0.413" (10.50mm); LastUpdated: 9/2/2020 1:25:15 AM; Lifecycle Status: Active; Minimum Order: 1; Mounting Type: Surface Mount; Operating Temperature: -40°C ~ 125°C; Package / Case: Radial, Can - SMD; Packaging: TapeAndReel; PartId: 7522; Part Status: Active; Price: 0.28; Series: Alchip™- MVH; Size / Dimension: 0.315" Dia (8.00mm); Supplier 1: DigiKey; Supplier Part Number 1: 565-4268-1-ND; Tolerance: ±20%; Value: 47µF; Voltage - Rated: 63V
footprint CAP ALSMD 8.3MM H10.5MM
pins: 1, 2

## EMVL160ADA470MF60G
designator C?, comment 47µF
CAP ALUM 47UF 20% 16V SMD; Part Number: EMVL160ADA470MF60G; Manufacturer: United Chemi-Con; Lifetime @ Temp.: 3000 Hrs @ 105°C; Polarization: Polar; Ripple Current @ High Frequency: 54mA @ 100kHz; Ripple Current @ Low Frequency: 50mA @ 120Hz; Surface Mount Land Size: 0.260" L x 0.260" W (6.60mm x 6.60mm); Applications: General Purpose; Capacitance: 47µF; ComponentLink1Description: Datasheet; ComponentLink1URL: http://www.chemi-con.co.jp/cgi-bin/CAT_DB/SEARCH/cat_db_al.cgi?e=e&j=p&pdfname=mvl; ComponentLink2Description: DigiKey Link; ComponentLink2URL: http://digikey.com/product-detail/en/united-chemi-con/EMVL160ADA470MF60G/565-5023-1-ND/8123967; Device Package: Radial, Can - SMD; Height - Seated (Max): 0.236" (6.00mm); LastUpdated: 9/2/2020 1:18:38 AM; Lifecycle Status: Active; Minimum Order: 1; Mounting Type: Surface Mount; Operating Temperature: -40°C ~ 105°C; Package / Case: Radial, Can - SMD; Packaging: TapeAndReel; PartId: 8889; Part Status: Active; Price: 0.15; Series: Alchip™- MVL; Size / Dimension: 0.248" Dia (6.30mm); Supplier 1: DigiKey; Supplier Part Number 1: 565-5023-1-ND; Tolerance: ±20%; Value: 47µF; Voltage - Rated: 16V
footprint CAP ALSMD 6.6MM H6.1MM
pins: 1, 2

## EMVL500ADA100MF60G
designator C?, comment 10µF
CAP ALUM 10UF 20% 50V SMD; Part Number: EMVL500ADA100MF60G; Manufacturer: United Chemi-Con; Lifetime @ Temp.: 3000 Hrs @ 105°C; Polarization: Polar; Ripple Current @ High Frequency: 45mA @ 100kHz; Ripple Current @ Low Frequency: 30mA @ 120Hz; Surface Mount Land Size: 0.260" L x 0.260" W (6.60mm x 6.60mm); Applications: General Purpose; Capacitance: 10µF; ComponentLink1Description: Datasheet; ComponentLink1URL: http://www.chemi-con.co.jp/cgi-bin/CAT_DB/SEARCH/cat_db_al.cgi?e=e&j=p&pdfname=mvl; ComponentLink2Description: DigiKey Link; ComponentLink2URL: http://digikey.com/product-detail/en/united-chemi-con/EMVL500ADA100MF60G/565-4272-1-ND/5400348; Device Package: Radial, Can - SMD; Height - Seated (Max): 0.236" (6.00mm); LastUpdated: 9/2/2020 1:18:38 AM; Lifecycle Status: Active; Minimum Order: 1; Mounting Type: Surface Mount; Operating Temperature: -40°C ~ 105°C; Package / Case: Radial, Can - SMD; Packaging: TapeAndReel; PartId: 8888; Part Status: Active; Price: 0.13; Series: Alchip™- MVL; Size / Dimension: 0.248" Dia (6.30mm); Supplier 1: DigiKey; Supplier Part Number 1: 565-4272-1-ND; Tolerance: ±20%; Value: 10µF; Voltage - Rated: 50V
footprint CAP ALSMD 6.6MM H6.1MM
pins: 1, 2

## EMVY6R3ADA221MF55G
designator C?, comment 220µF
CAP ALUM 220UF 20% 6.3V SMD; Part Number: EMVY6R3ADA221MF55G; Manufacturer: United Chemi-Con; Impedance: 1 Ohms; Lifetime @ Temp.: 1000 Hrs @ 105°C; Polarization: Polar; Ripple Current @ High Frequency: 140mA @ 100kHz; Ripple Current @ Low Frequency: 70mA @ 120Hz; Surface Mount Land Size: 0.260" L x 0.260" W (6.60mm x 6.60mm); Applications: General Purpose; Capacitance: 220µF; ComponentLink1Description: Datasheet; ComponentLink1URL: http://www.chemi-con.co.jp/cgi-bin/CAT_DB/SEARCH/cat_db_al.cgi?e=e&j=p&pdfname=mvy; ComponentLink2Description: DigiKey Link; ComponentLink2URL: http://digikey.com/product-detail/en/united-chemi-con/EMVY6R3ADA221MF55G/565-2411-1-ND/757572; Device Package: Radial, Can - SMD; Height - Seated (Max): 0.205" (5.20mm); LastUpdated: 9/2/2020 1:18:33 AM; Lifecycle Status: Active; Minimum Order: 1; Mounting Type: Surface Mount; Operating Temperature: -55°C ~ 105°C; Package / Case: Radial, Can - SMD; Packaging: TapeAndReel; PartId: 8810; Part Status: Active; Price: 0.12; Series: Alchip™- MVY; Size / Dimension: 0.248" Dia (6.30mm); Supplier 1: DigiKey; Supplier Part Number 1: 565-2411-1-ND; Tolerance: ±20%; Value: 220µF; Voltage - Rated: 6.3V
footprint CAP ALSMD 6.6MM H5.4MM
pins: 1, 2

## EMVY6R3ADA330ME55G
designator C?, comment 33µF
CAP ALUM 33UF 20% 6.3V SMD; Part Number: EMVY6R3ADA330ME55G; Manufacturer: United Chemi-Con; Impedance: 1.8 Ohms; Lifetime @ Temp.: 1000 Hrs @ 105°C; Polarization: Polar; Ripple Current @ High Frequency: 95mA @ 100kHz; Ripple Current @ Low Frequency: 38mA @ 120Hz; Surface Mount Land Size: 0.209" L x 0.209" W (5.30mm x 5.30mm); Applications: General Purpose; Capacitance: 33µF; ComponentLink1Description: Datasheet; ComponentLink1URL: http://www.chemi-con.co.jp/cgi-bin/CAT_DB/SEARCH/cat_db_al.cgi?e=e&j=p&pdfname=mvy; ComponentLink2Description: DigiKey Link; ComponentLink2URL: http://digikey.com/product-detail/en/united-chemi-con/EMVY6R3ADA330ME55G/565-2408-1-ND/757569; Device Package: Radial, Can - SMD; Height - Seated (Max): 0.205" (5.20mm); LastUpdated: 9/2/2020 1:18:30 AM; Lifecycle Status: Active; Minimum Order: 1; Mounting Type: Surface Mount; Operating Temperature: -55°C ~ 105°C; Package / Case: Radial, Can - SMD; Packaging: TapeAndReel; PartId: 8625; Part Status: Active; Price: 0.10; Series: Alchip™- MVY; Size / Dimension: 0.197" Dia (5.00mm); Supplier 1: DigiKey; Supplier Part Number 1: 565-2408-1-ND; Tolerance: ±20%; Value: 33µF; Voltage - Rated: 6.3V
footprint CAP ALSMD 5.3MM H5.4MM
pins: 1, 2

## EMVY6R3ADA331MF80G
designator C?, comment 330µF
CAP ALUM 330UF 20% 6.3V SMD; Part Number: EMVY6R3ADA331MF80G; Manufacturer: United Chemi-Con; Impedance: 340 mOhms; Lifetime @ Temp.: 1000 Hrs @ 105°C; Polarization: Polar; Ripple Current @ High Frequency: 280mA @ 100kHz; Ripple Current @ Low Frequency: 140mA @ 120Hz; Surface Mount Land Size: 0.260" L x 0.260" W (6.60mm x 6.60mm); Applications: General Purpose; Capacitance: 330µF; ComponentLink1Description: Datasheet; ComponentLink1URL: http://www.chemi-con.co.jp/cgi-bin/CAT_DB/SEARCH/cat_db_al.cgi?e=e&j=p&pdfname=mvy; ComponentLink2Description: DigiKey Link; ComponentLink2URL: http://digikey.com/product-detail/en/united-chemi-con/EMVY6R3ADA331MF80G/565-2412-1-ND/757573; Device Package: Radial, Can - SMD; Height - Seated (Max): 0.303" (7.70mm); LastUpdated: 9/2/2020 1:25:35 AM; Lifecycle Status: Active; Minimum Order: 1; Mounting Type: Surface Mount; Operating Temperature: -55°C ~ 105°C; Package / Case: Radial, Can - SMD; Packaging: TapeAndReel; PartId: 8240; Part Status: Active; Price: 0.14; Series: Alchip™- MVY; Size / Dimension: 0.248" Dia (6.30mm); Supplier 1: DigiKey; Supplier Part Number 1: 565-2412-1-ND; Tolerance: ±20%; Value: 330µF; Voltage - Rated: 6.3V
footprint CAP ALSMD 6.6MM H7.7MM
pins: 1, 2

## EMVY6R3ADA470ME55G
designator C?, comment 47µF
CAP ALUM 47UF 20% 6.3V SMD; Part Number: EMVY6R3ADA470ME55G; Manufacturer: United Chemi-Con; Impedance: 1.8 Ohms; Lifetime @ Temp.: 1000 Hrs @ 105°C; Polarization: Polar; Ripple Current @ High Frequency: 95mA @ 100kHz; Ripple Current @ Low Frequency: 38mA @ 120Hz; Surface Mount Land Size: 0.209" L x 0.209" W (5.30mm x 5.30mm); Applications: General Purpose; Capacitance: 47µF; ComponentLink1Description: Datasheet; ComponentLink1URL: http://www.chemi-con.co.jp/cgi-bin/CAT_DB/SEARCH/cat_db_al.cgi?e=e&j=p&pdfname=mvy; ComponentLink2Description: DigiKey Link; ComponentLink2URL: http://digikey.com/product-detail/en/united-chemi-con/EMVY6R3ADA470ME55G/565-2409-1-ND/757570; Device Package: Radial, Can - SMD; Height - Seated (Max): 0.205" (5.20mm); LastUpdated: 9/2/2020 1:18:30 AM; Lifecycle Status: Active; Minimum Order: 1; Mounting Type: Surface Mount; Operating Temperature: -55°C ~ 105°C; Package / Case: Radial, Can - SMD; Packaging: TapeAndReel; PartId: 8600; Part Status: Active; Price: 0.10; Series: Alchip™- MVY; Size / Dimension: 0.197" Dia (5.00mm); Supplier 1: DigiKey; Supplier Part Number 1: 565-2409-1-ND; Tolerance: ±20%; Value: 47µF; Voltage - Rated: 6.3V
footprint CAP ALSMD 5.3MM H5.4MM
pins: 1, 2

## EMVY160ADA100MD55G
designator C?, comment 10µF
CAP ALUM 10UF 20% 16V SMD; Part Number: EMVY160ADA100MD55G; Manufacturer: United Chemi-Con; Impedance: 3 Ohms; Lifetime @ Temp.: 1000 Hrs @ 105°C; Polarization: Polar; Ripple Current @ High Frequency: 60mA @ 100kHz; Ripple Current @ Low Frequency: 24mA @ 120Hz; Surface Mount Land Size: 0.169" L x 0.169" W (4.30mm x 4.30mm); Applications: General Purpose; Capacitance: 10µF; ComponentLink1Description: Datasheet; ComponentLink1URL: http://www.chemi-con.co.jp/cgi-bin/CAT_DB/SEARCH/cat_db_al.cgi?e=e&j=p&pdfname=mvy; ComponentLink2Description: DigiKey Link; ComponentLink2URL: http://digikey.com/product-detail/en/united-chemi-con/EMVY160ADA100MD55G/565-2442-1-ND/757603; Device Package: Radial, Can - SMD; Height - Seated (Max): 0.205" (5.20mm); LastUpdated: 9/2/2020 1:23:45 AM; Lifecycle Status: Active; Minimum Order: 1; Mounting Type: Surface Mount; Operating Temperature: -55°C ~ 105°C; Package / Case: Radial, Can - SMD; Packaging: TapeAndReel; PartId: 7062; Part Status: Active; Price: 0.08; Series: Alchip™- MVY; Size / Dimension: 0.157" Dia (4.00mm); Supplier 1: DigiKey; Supplier Part Number 1: 565-2442-1-ND; Tolerance: ±20%; Value: 10µF; Voltage - Rated: 16V
footprint CAP ALSMD POLY 4.3MM H5.5MM
pins: 1, 2

## EMVY160ADA101MF55G
designator C?, comment 100µF
CAP ALUM 100UF 20% 16V SMD; Part Number: EMVY160ADA101MF55G; Manufacturer: United Chemi-Con; Impedance: 1 Ohms; Lifetime @ Temp.: 1000 Hrs @ 105°C; Polarization: Polar; Ripple Current @ High Frequency: 140mA @ 100kHz; Ripple Current @ Low Frequency: 56mA @ 120Hz; Surface Mount Land Size: 0.260" L x 0.260" W (6.60mm x 6.60mm); Applications: General Purpose; Capacitance: 100µF; ComponentLink1Description: Datasheet; ComponentLink1URL: http://www.chemi-con.co.jp/cgi-bin/CAT_DB/SEARCH/cat_db_al.cgi?e=e&j=p&pdfname=mvy; ComponentLink2Description: DigiKey Link; ComponentLink2URL: http://digikey.com/product-detail/en/united-chemi-con/EMVY160ADA101MF55G/565-2446-1-ND/757607; Device Package: Radial, Can - SMD; Height - Seated (Max): 0.205" (5.20mm); LastUpdated: 9/2/2020 1:18:32 AM; Lifecycle Status: Active; Minimum Order: 1; Mounting Type: Surface Mount; Operating Temperature: -55°C ~ 105°C; Package / Case: Radial, Can - SMD; Packaging: TapeAndReel; PartId: 8634; Part Status: Active; Price: 0.12; Series: Alchip™- MVY; Size / Dimension: 0.248" Dia (6.30mm); Supplier 1: DigiKey; Supplier Part Number 1: 565-2446-1-ND; Tolerance: ±20%; Value: 100µF; Voltage - Rated: 16V
footprint CAP ALSMD 6.6MM H5.4MM
pins: 1, 2

## EMVY160ADA220ME55G
designator C?, comment 22µF
CAP ALUM 22UF 20% 16V SMD; Part Number: EMVY160ADA220ME55G; Manufacturer: United Chemi-Con; Impedance: 1.8 Ohms; Lifetime @ Temp.: 1000 Hrs @ 105°C; Polarization: Polar; Ripple Current @ High Frequency: 95mA @ 100kHz; Ripple Current @ Low Frequency: 38mA @ 120Hz; Surface Mount Land Size: 0.209" L x 0.209" W (5.30mm x 5.30mm); Applications: General Purpose; Capacitance: 22µF; ComponentLink1Description: Datasheet; ComponentLink1URL: http://www.chemi-con.co.jp/cgi-bin/CAT_DB/SEARCH/cat_db_al.cgi?e=e&j=p&pdfname=mvy; ComponentLink2Description: DigiKey Link; ComponentLink2URL: http://digikey.com/product-detail/en/united-chemi-con/EMVY160ADA220ME55G/565-2443-1-ND/757604; Device Package: Radial, Can - SMD; Height - Seated (Max): 0.205" (5.20mm); LastUpdated: 9/2/2020 1:18:30 AM; Lifecycle Status: Active; Minimum Order: 1; Mounting Type: Surface Mount; Operating Temperature: -55°C ~ 105°C; Package / Case: Radial, Can - SMD; Packaging: TapeAndReel; PartId: 8598; Part Status: Active; Price: 0.10; Series: Alchip™- MVY; Size / Dimension: 0.197" Dia (5.00mm); Supplier 1: DigiKey; Supplier Part Number 1: 565-2443-1-ND; Tolerance: ±20%; Value: 22µF; Voltage - Rated: 16V
footprint CAP ALSMD 5.3MM H5.4MM
pins: 1, 2

## EMVY160ADA221MF80G
designator C?, comment 220µF
CAP ALUM 220UF 20% 16V SMD; Part Number: EMVY160ADA221MF80G; Manufacturer: United Chemi-Con; Impedance: 340 mOhms; Lifetime @ Temp.: 1000 Hrs @ 105°C; Polarization: Polar; Ripple Current @ High Frequency: 280mA @ 100kHz; Ripple Current @ Low Frequency: 140mA @ 120Hz; Surface Mount Land Size: 0.260" L x 0.260" W (6.60mm x 6.60mm); Applications: General Purpose; Capacitance: 220µF; ComponentLink1Description: Datasheet; ComponentLink1URL: http://www.chemi-con.co.jp/cgi-bin/CAT_DB/SEARCH/cat_db_al.cgi?e=e&j=p&pdfname=mvy; ComponentLink2Description: DigiKey Link; ComponentLink2URL: http://digikey.com/product-detail/en/united-chemi-con/EMVY160ADA221MF80G/565-2447-1-ND/757608; Device Package: Radial, Can - SMD; Height - Seated (Max): 0.303" (7.70mm); LastUpdated: 9/2/2020 1:25:34 AM; Lifecycle Status: Active; Minimum Order: 1; Mounting Type: Surface Mount; Operating Temperature: -55°C ~ 105°C; Package / Case: Radial, Can - SMD; Packaging: TapeAndReel; PartId: 8292; Part Status: Active; Price: 0.14; Series: Alchip™- MVY; Size / Dimension: 0.248" Dia (6.30mm); Supplier 1: DigiKey; Supplier Part Number 1: 565-2447-1-ND; Tolerance: ±20%; Value: 220µF; Voltage - Rated: 16V
footprint CAP ALSMD 6.6MM H7.7MM
pins: 1, 2

## EMVY160ADA470MF55G
designator C?, comment 47µF
CAP ALUM 47UF 20% 16V SMD; Part Number: EMVY160ADA470MF55G; Manufacturer: United Chemi-Con; Impedance: 1 Ohms; Lifetime @ Temp.: 1000 Hrs @ 105°C; Polarization: Polar; Ripple Current @ High Frequency: 140mA @ 100kHz; Ripple Current @ Low Frequency: 56mA @ 120Hz; Surface Mount Land Size: 0.260" L x 0.260" W (6.60mm x 6.60mm); Applications: General Purpose; Capacitance: 47µF; ComponentLink1Description: Datasheet; ComponentLink1URL: http://www.chemi-con.co.jp/cgi-bin/CAT_DB/SEARCH/cat_db_al.cgi?e=e&j=p&pdfname=mvy; ComponentLink2Description: DigiKey Link; ComponentLink2URL: http://digikey.com/product-detail/en/united-chemi-con/EMVY160ADA470MF55G/565-2445-1-ND/757606; Device Package: Radial, Can - SMD; Height - Seated (Max): 0.205" (5.20mm); LastUpdated: 9/2/2020 1:18:33 AM; Lifecycle Status: Active; Minimum Order: 1; Mounting Type: Surface Mount; Operating Temperature: -55°C ~ 105°C; Package / Case: Radial, Can - SMD; Packaging: TapeAndReel; PartId: 8754; Part Status: Active; Price: 0.11; Series: Alchip™- MVY; Size / Dimension: 0.248" Dia (6.30mm); Supplier 1: DigiKey; Supplier Part Number 1: 565-2445-1-ND; Tolerance: ±20%; Value: 47µF; Voltage - Rated: 16V
footprint CAP ALSMD 6.6MM H5.4MM
pins: 1, 2

## EMVY250ADA100ME55G
designator C?, comment 10µF
CAP ALUM 10UF 20% 25V SMD; Part Number: EMVY250ADA100ME55G; Manufacturer: United Chemi-Con; Impedance: 1.8 Ohms; Lifetime @ Temp.: 1000 Hrs @ 105°C; Polarization: Polar; Ripple Current @ High Frequency: 95mA @ 100kHz; Ripple Current @ Low Frequency: 38mA @ 120Hz; Surface Mount Land Size: 0.209" L x 0.209" W (5.30mm x 5.30mm); Applications: General Purpose; Capacitance: 10µF; ComponentLink1Description: Datasheet; ComponentLink1URL: http://www.chemi-con.co.jp/cgi-bin/CAT_DB/SEARCH/cat_db_al.cgi?e=e&j=p&pdfname=mvy; ComponentLink2Description: DigiKey Link; ComponentLink2URL: http://digikey.com/product-detail/en/united-chemi-con/EMVY250ADA100ME55G/565-2458-1-ND/757619; Device Package: Radial, Can - SMD; Height - Seated (Max): 0.205" (5.20mm); LastUpdated: 9/2/2020 1:18:30 AM; Lifecycle Status: Active; Minimum Order: 1; Mounting Type: Surface Mount; Operating Temperature: -55°C ~ 105°C; Package / Case: Radial, Can - SMD; Packaging: TapeAndReel; PartId: 8597; Part Status: Active; Price: 0.10; Series: Alchip™- MVY; Size / Dimension: 0.197" Dia (5.00mm); Supplier 1: DigiKey; Supplier Part Number 1: 565-2458-1-ND; Tolerance: ±20%; Value: 10µF; Voltage - Rated: 25V
footprint CAP ALSMD 5.3MM H5.4MM
pins: 1, 2

## EMVY250ADA101MF80G
designator C?, comment 100µF
CAP ALUM 100UF 20% 25V SMD; Part Number: EMVY250ADA101MF80G; Manufacturer: United Chemi-Con; Impedance: 340 mOhms; Lifetime @ Temp.: 1000 Hrs @ 105°C; Polarization: Polar; Ripple Current @ High Frequency: 280mA @ 100kHz; Ripple Current @ Low Frequency: 112mA @ 120Hz; Surface Mount Land Size: 0.260" L x 0.260" W (6.60mm x 6.60mm); Applications: General Purpose; Capacitance: 100µF; ComponentLink1Description: Datasheet; ComponentLink1URL: http://www.chemi-con.co.jp/cgi-bin/CAT_DB/SEARCH/cat_db_al.cgi?e=e&j=p&pdfname=mvy; ComponentLink2Description: DigiKey Link; ComponentLink2URL: http://digikey.com/product-detail/en/united-chemi-con/EMVY250ADA101MF80G/565-2462-1-ND/757623; Device Package: Radial, Can - SMD; Height - Seated (Max): 0.303" (7.70mm); LastUpdated: 9/2/2020 1:25:34 AM; Lifecycle Status: Active; Minimum Order: 1; Mounting Type: Surface Mount; Operating Temperature: -55°C ~ 105°C; Package / Case: Radial, Can - SMD; Packaging: TapeAndReel; PartId: 8319; Part Status: Active; Price: 0.14; Series: Alchip™- MVY; Size / Dimension: 0.248" Dia (6.30mm); Supplier 1: DigiKey; Supplier Part Number 1: 565-2462-1-ND; Tolerance: ±20%; Value: 100µF; Voltage - Rated: 25V
footprint CAP ALSMD 6.6MM H7.7MM
pins: 1, 2